# EAGLE library part WEMOS_S2_MINI (library mk)
Wemos S2 Mini Source: https://github.com/mats-nk/Eagle-library Source: https://www.wemos.cc/en/latest/s2/s2_mini.html Features: - Base ESP32-S2FN4R2 WIFI IC - Type-C USB - 4MB Flash - 2MB PSRAM - 27x IO - ADC, DAC, I2C, SPI, UART, USB OTG Picture: Wemos S2 Mini <https://github.com/mats-nk/Eagle-library/raw/main/Img/S2_mini_v1.0.0_pinout.jpg>
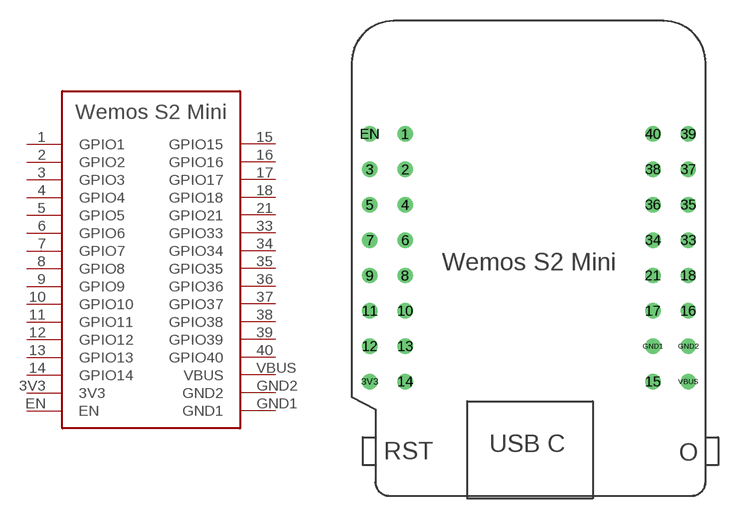
[diagram p0: symbol with the pads of WEMOS_S2_MINI; footprint WEMOS_S2_MINI]

Designator prefix -

## WEMOS_S2_MINI  [WEMOS_S2_MINI]
1  GPIO1
2  GPIO2
3  GPIO3
3V3  3V3  pwr
4  GPIO4
5  GPIO5
6  GPIO6
7  GPIO7
8  GPIO8
9  GPIO9
10  GPIO10
11  GPIO11
12  GPIO12
13  GPIO13
14  GPIO14
15  GPIO15
16  GPIO16
17  GPIO17
18  GPIO18
21  GPIO21
33  GPIO33
34  GPIO34
35  GPIO35
36  GPIO36
37  GPIO37
38  GPIO38
39  GPIO39
40  GPIO40
EN  EN  in
GND1  GND1  pwr
GND2  GND2  pwr
VBUS  VBUS  pwr

## Footprint WEMOS_S2_MINI (pad centres in mm)
Wemos S2 Mini https://www.wemos.cc/en/latest/s2/s2_mini.html Features: - based ESP32-S2FN4R2 WIFI IC - Type-C USB - 4MB Flash - 2MB PSRAM - 27x IO - ADC, DAC, I2C, SPI, UART, USB OTG - Compatible with LOLIN D1 mini shields
drill 0.6: 1 2.54,17.78; 2 2.54,15.24; 3 0,15.24; 3V3 0,0; 4 2.54,12.7; 5 0,12.7; 6 2.54,10.16; 7 0,10.16; 8 2.54,7.62; 9 0,7.62; 10 2.54,5.08; 11 0,5.08; 12 0,2.54; 13 2.54,2.54; 14 2.54,0; 15 20.32,0; 16 22.86,5.08; 17 20.32,5.08; 18 22.86,7.62; 21 20.32,7.62; 33 22.86,10.16; 34 20.32,10.16; 35 22.86,12.7; 36 20.32,12.7; 37 22.86,15.24; 38 20.32,15.24; 39 22.86,17.78; 40 20.32,17.78; EN 0,17.78; GND1 20.32,2.54; GND2 22.86,2.54; VBUS 22.86,0